# Altium schematic symbol library IRFB3607.SchLib: 1 symbol
Pins are listed as number, name and electrical type; pins without a type are passive.

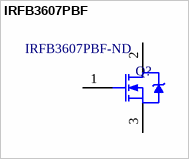
[diagram p0: symbol IRFB3607PBF]

## IRFB3607PBF
designator Q?, comment Supplier Part Number 1: IRFB3607PBF-ND  (hidden comment: MOSFET for DCDC)
INTERNATIONAL RECTIFIER   IRFB3607PBF   MOSFET Transistor, N Channel, 80 A, 75 V, 0.00734 ohm, 10 V, 4 V; Continuous Drain Current (ID): 80A; Gate to Source Voltage (Vgs): 20V; Turn-Off Delay Time: 43ns; Turn-On Delay Time: 16ns; Rise Time: 110ns; Fall Time: 96ns; Drain to Source Voltage (Vdss): 75V; Power Dissipation: 140W; Drain to Source Resistance: 9mR; Input Capacitance: 3.07nF; Threshold Voltage: 4V; Element Configuration: Single; Number of Elements: 1; Recovery Time: 50ns; Supplier 1: Digi-Key; Manufacturer: International Rectifier; Manufacturer Part Number: IRFB3607PBF; Stock 1: 2332; Pricing 1: 1 = 0.85000, 10 = 0.75100, 25 = 0.70520, 100 = 0.51190, 250 = 0.49368, 500 = 0.42770, 1000 = 0.36400, 2500 = 0.34125, 5000 = 0.30713 (USD); RoHS: Yes; Mount: Through Hole; Case/Package: TO-220AB; Number of Pins: 3; Min Operating Temperature: -55°C; Max Operating Temperature: 175°C; Drain to Source Breakdown Voltage: 75V; Max Power Dissipation: 140W; Rds On Max: 9mR; Packaging: Rail/Tube; Package Quantity: 50; Termination: Through Hole; Dual Supply Voltage: 75V; On-State Resistance: 9MR; Nominal Vgs: 4V; Length: 10.66mm; Height: 9.02mm; Width: 4.82mm; Radiation Hardening: No; Lead Free: Lead Free; REACH SVHC: No SVHC; ComponentLink1URL: https://datasheet.ciiva.com/14170/irfs3607pbf-eng-tds-14170693.pdf?src-supplier=Distrelec; ComponentLink1Description: https://datasheet.ciiva.com/14170/irfs3607pbf-eng-tds-14170693.pdf?src-supplier=Distrelec; ComponentLink2URL: https://datasheet.ciiva.com/17315/irfs3607pbf-17315511.pdf?src-supplier=Avnet+Europe; ComponentLink2Description: https://datasheet.ciiva.com/17315/irfs3607pbf-17315511.pdf?src-supplier=Avnet+Europe; ComponentLink3URL: https://datasheet.ciiva.com/6368/irfs3607pbf-6368216.pdf?src-supplier=Digi-Key; ComponentLink3Description: https://datasheet.ciiva.com/6368/irfs3607pbf-6368216.pdf?src-supplier=Digi-Key; ComponentLink4URL: https://datasheet.ciiva.com/7798/irfs3607pbf-7798745.pdf?src-supplier=Element14; ComponentLink4Description: https://datasheet.ciiva.com/7798/irfs3607pbf-7798745.pdf?src-supplier=Element14; ComponentLink5URL: https://datasheet.ciiva.com/16355/irfs3607pbf-16355482.pdf?src-supplier=Future+Electronics; ComponentLink5Description: https://datasheet.ciiva.com/16355/irfs3607pbf-16355482.pdf?src-supplier=Future+Electronics
footprint INTR-TO-220AB-3_A (FM, 3-Leads, Body 10.7x4.85mm, Pitch 2.54mm)
pins: 1 G, 2 D, 3 S